# Altium schematic symbol library neoxin.SchLib: 20 symbols
Pins are listed as number, name and electrical type; pins without a type are passive.

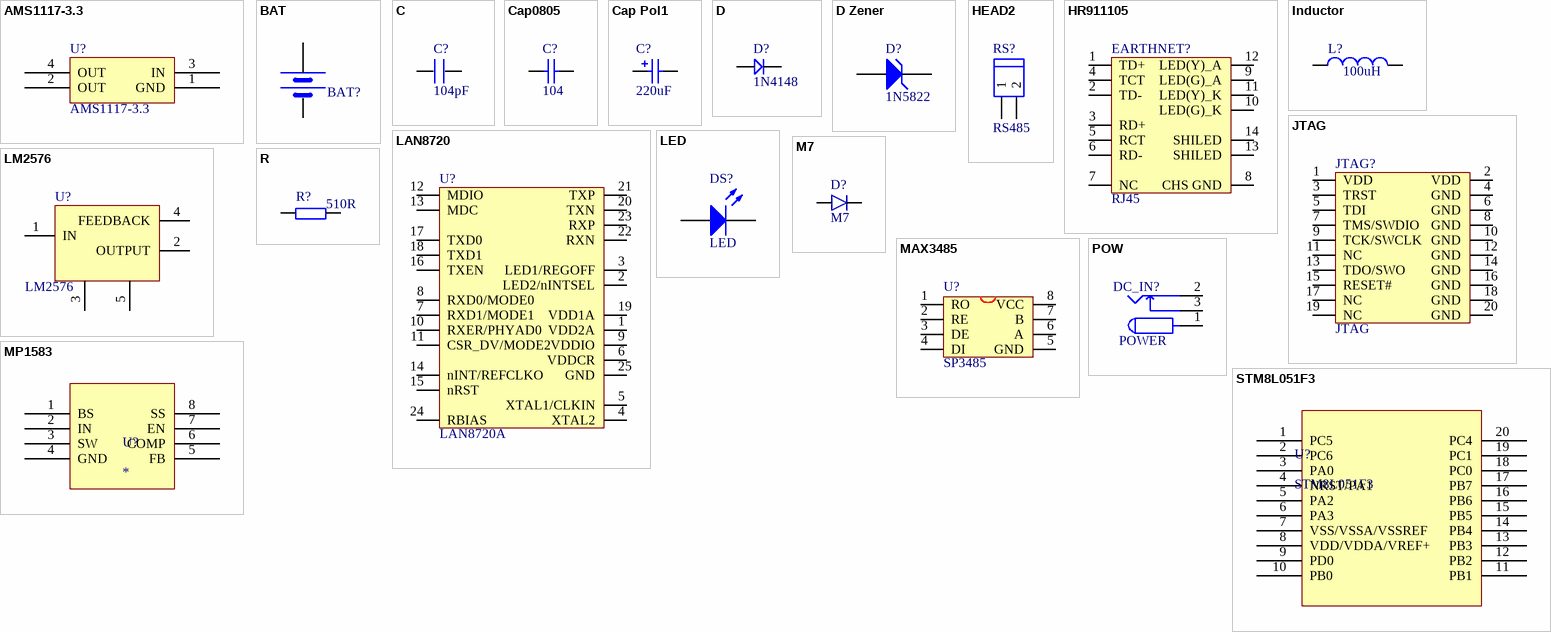
[diagram p0: symbols AMS1117-3.3 to STM8L051F3]

## AMS1117-3.3
designator U?
footprint AMS1117-3.3
pins: 1 GND, 2 OUT, 3 IN, 4 OUT

## BAT
designator BAT?, comment BATT  (value not drawn)
footprint BATM
pins: 1 VCC, 2 GND

## C
designator C?, comment 104pF
footprint C0603
pins: 1, 2

## Cap0805
designator C?, comment value 104  (hidden comment: Cap)
Capacitor; Published: 8-Jun-2000; LatestRevisionDate: 17-Jul-2002; LatestRevisionNote: Re-released for DXP Platform.; PackageReference: RAD-0.3; Publisher: Altium Limited; PackageDescription: Radial Cap, Thru-Hole; 2 Leads; 0.3 in Pin Spacing
footprint RAD-0.3 (Radial Cap, Thru-Hole; 2 Leads; 0.3 in Pin Spacing)
simulation model CAP (Capacitor)
signal-integrity model Cap
footprint 0805
pins: 1, 2

## Cap Pol1
designator C?  value 220uF  (hidden comment: Cap Pol1)
Polarized Capacitor (Radial); Published: 8-Jun-2000; LatestRevisionDate: 17-Jul-2002; LatestRevisionNote: Re-released for DXP Platform.; PackageReference: RB7.6-15; Publisher: Altium Limited; PackageDescription: Polarized Capacitor (Radial); 2 Leads
footprint C15
simulation model CAP (Capacitor)
signal-integrity model Cap Pol
pins: 1, 2
1 alternate drawing of the same symbol

## D
designator D?, comment 1N4148
footprint Diode_MELF(1206)
pins: 1, 2

## D Zener
designator D?, comment 1N5822
Zener Diode; Published: 8-Jun-2000; LatestRevisionDate: 17-Jul-2002; LatestRevisionNote: Re-released for DXP Platform.; PackageReference: DIODE-0.7; Publisher: Altium Limited; PackageDescription: Diode, Thru-Hole; 2 Leads; 0.7 in Pin Spacing
footprint DIODE-0.7 (Diode, Thru-Hole; 2 Leads; 0.7 in Pin Spacing)
simulation model ZENER (Diode)
signal-integrity model D Zener
footprint 1206
footprint smb do214aa
pins: 1 A, 2 K

## HEAD2
designator RS?, comment RS485
footprint HEAD2H (HEAD5.08)
footprint HEAD2L (HEAD5.08)
footprint HEAD2L-0.8 (10.16mm*10.16mm,pin:5.08mm)
footprint HEAD2W (2EDG-2,pin:5.08mm)
footprint HEAD2L-0.8
pins: 1, 2

## HR911105
designator EARTHNET?, comment RJ45
footprint HR911105A
pins: 1 TD+, 2 TD-, 3 RD+, 4 TCT, 5 RCT, 6 RD-, 7 NC, 8 CHS GND, 9 LED(G)_A, 10 LED(G)_K, 11 LED(Y)_K, 12 LED(Y)_A, 13 SHILED, 14 SHILED

## Inductor
designator L?  value 100uH
Inductor; Code_IEC: 1005; Published: 8-Jun-2000; LatestRevisionDate: 29-May-2009; LatestRevisionNote: IPC-7351 Footprint Added.; PackageReference: 0402-A; Publisher: Altium Limited; PackageDescription: Chip Inductor; Code_JEITA: 0402
footprint 0402-A (Chip Inductor, Body 1.0x0.5mm, IPC High Density)
footprint INDC1608L (Chip Inductor, Body 1.6x0.8mm, IPC High Density)
footprint 2029 (Chip Inductor, Body 2.0x1.2mm, IPC High Density)
footprint 0603 (Chip Inductor, Body 0.6x0.3mm, IPC High Density)
footprint INDC3216 (Chip Inductor, Body 3.2x1.6mm, IPC High Density)
footprint INDC4532 (Chip Inductor, Body 4.5x3.2mm, IPC High Density)
simulation model INDUCTOR (Inductor)
signal-integrity model Inductor
footprint l1212
pins: 1, 2

## JTAG
designator JTAG?
footprint JTAG_20
pins: 1 VDD, 2 VDD, 3 TRST, 4 GND, 5 TDI, 6 GND, 7 TMS/SWDIO, 8 GND, 9 TCK/SWCLK, 10 GND, 11 NC, 12 GND, 13 TDO/SWO, 14 GND, 15 RESET#, 16 GND, 17 NC, 18 GND, 19 NC, 20 GND

## LAN8720
designator U?, comment LAN8720A
ETH PHY
footprint QFN24
pins: 1 VDD2A, 2 LED2/nINTSEL, 3 LED1/REGOFF, 4 XTAL2, 5 XTAL1/CLKIN, 6 VDDCR, 7 RXD1/MODE1, 8 RXD0/MODE0, 9 VDDIO, 10 RXER/PHYAD0, 11 CSR_DV/MODE2, 12 MDIO, 13 MDC, 14 nINT/REFCLKO, 15 nRST, 16 TXEN, 17 TXD0, 18 TXD1, 19 VDD1A, 20 TXN, 21 TXP, 22 RXN, 23 RXP, 24 RBIAS, 25 GND

## LED
designator DS?
Typical RED, GREEN, YELLOW, AMBER GaAs LED; Published: 8-Jun-2000; LatestRevisionDate: 17-Jul-2002; LatestRevisionNote: Re-released for DXP Platform.; PackageDocument: Feb-2002; PackageReference: 3.2X1.6X1.1; Publisher: Altium Limited
footprint SMDLED
simulation model LED2 (Diode)
pins: 1 A, 2 K

## LM2576
designator U?
footprint PCBComponent_1
footprint PCBComponent_1
footprint TO-263-5
pins: 1 IN, 2 OUTPUT, 3, 4 FEEDBACK, 5

## M7
designator D?
footprint SMA (DO-214AC)
pins: 1 -, 2 +

## MAX3485
designator U?, comment SP3485
footprint SOP-8
pins: 1 RO, 2 RE, 3 DE, 4 DI, 5 GND, 6 A, 7 B, 8 VCC

## MP1583
designator U?
DC-DC Step-Down Converter
pins: 1 BS, 2 IN, 3 SW, 4 GND, 5 FB, 6 COMP, 7 EN, 8 SS

## POW
designator DC_IN?, comment POWER
footprint DC10B
pins: 1, 2, 3

## R
designator R?, comment 510R
footprint R0603
pins: 1, 2

## STM8L051F3
designator U?
pins: 1 PC5, 2 PC6, 3 PA0, 4 NRST/PA1, 5 PA2, 6 PA3, 7 VSS/VSSA/VSSREF, 8 VDD/VDDA/VREF+ "8", 9 PD0, 10 PB0, 11 PB1, 12 PB2, 13 PB3, 14 PB4, 15 PB5, 16 PB6, 17 PB7, 18 PC0, 19 PC1, 20 PC4